# EAGLE library part CM1213A (library HAB)
CM1213A CM1213A 4-channel ESD protection device
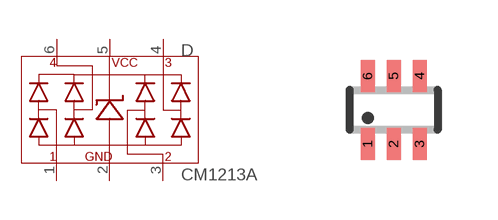
[diagram p4: symbol with the pads of SC70-6L; footprint SC70-6L]

Designator prefix D

## CM1213A  [SC70-6L]
1  CH1  pas
2  GND  pwr
3  CH2  pas
4  CH3  pas
5  VCC  pwr
6  CH4  pas

## Footprint SC70-6L (pad centres in mm)
SC-70 Package
smd 0.35 x 0.8: 1 -0.65,-0.85; 2 0,-0.85; 3 0.65,-0.85; 4 0.65,0.85; 5 0,0.85; 6 -0.65,0.85